# Altium schematic symbol library LiPoBattery.SchLib: 3 symbols
Pins are listed as number, name and electrical type; pins without a type are passive.

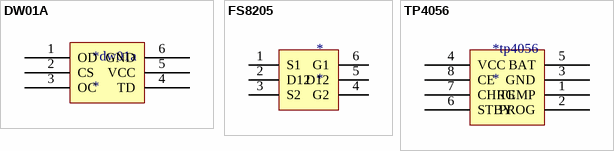
[diagram p0: symbols DW01A to TP4056]

## DW01A
designator *dw01a
battery protection IC
pins: 1 OD, 2 CS, 3 OC, 4 TD, 5 VCC, 6 GND

## FS8205
designator *
pins: 1 S1, 2 D12, 3 S2, 4 G2, 5 D12, 6 G1

## TP4056
designator *tp4056
SOP-8 Battery Management ICs ROHS
pins: 1 TEMP, 2 PROG, 3 GND, 4 VCC, 5 BAT, 6 STBY, 7 CHRG, 8 CE